# Altium schematic symbol library Transistor_Power_Module.SchLib: 35 symbols
Pins are listed as number, name and electrical type; pins without a type are passive.

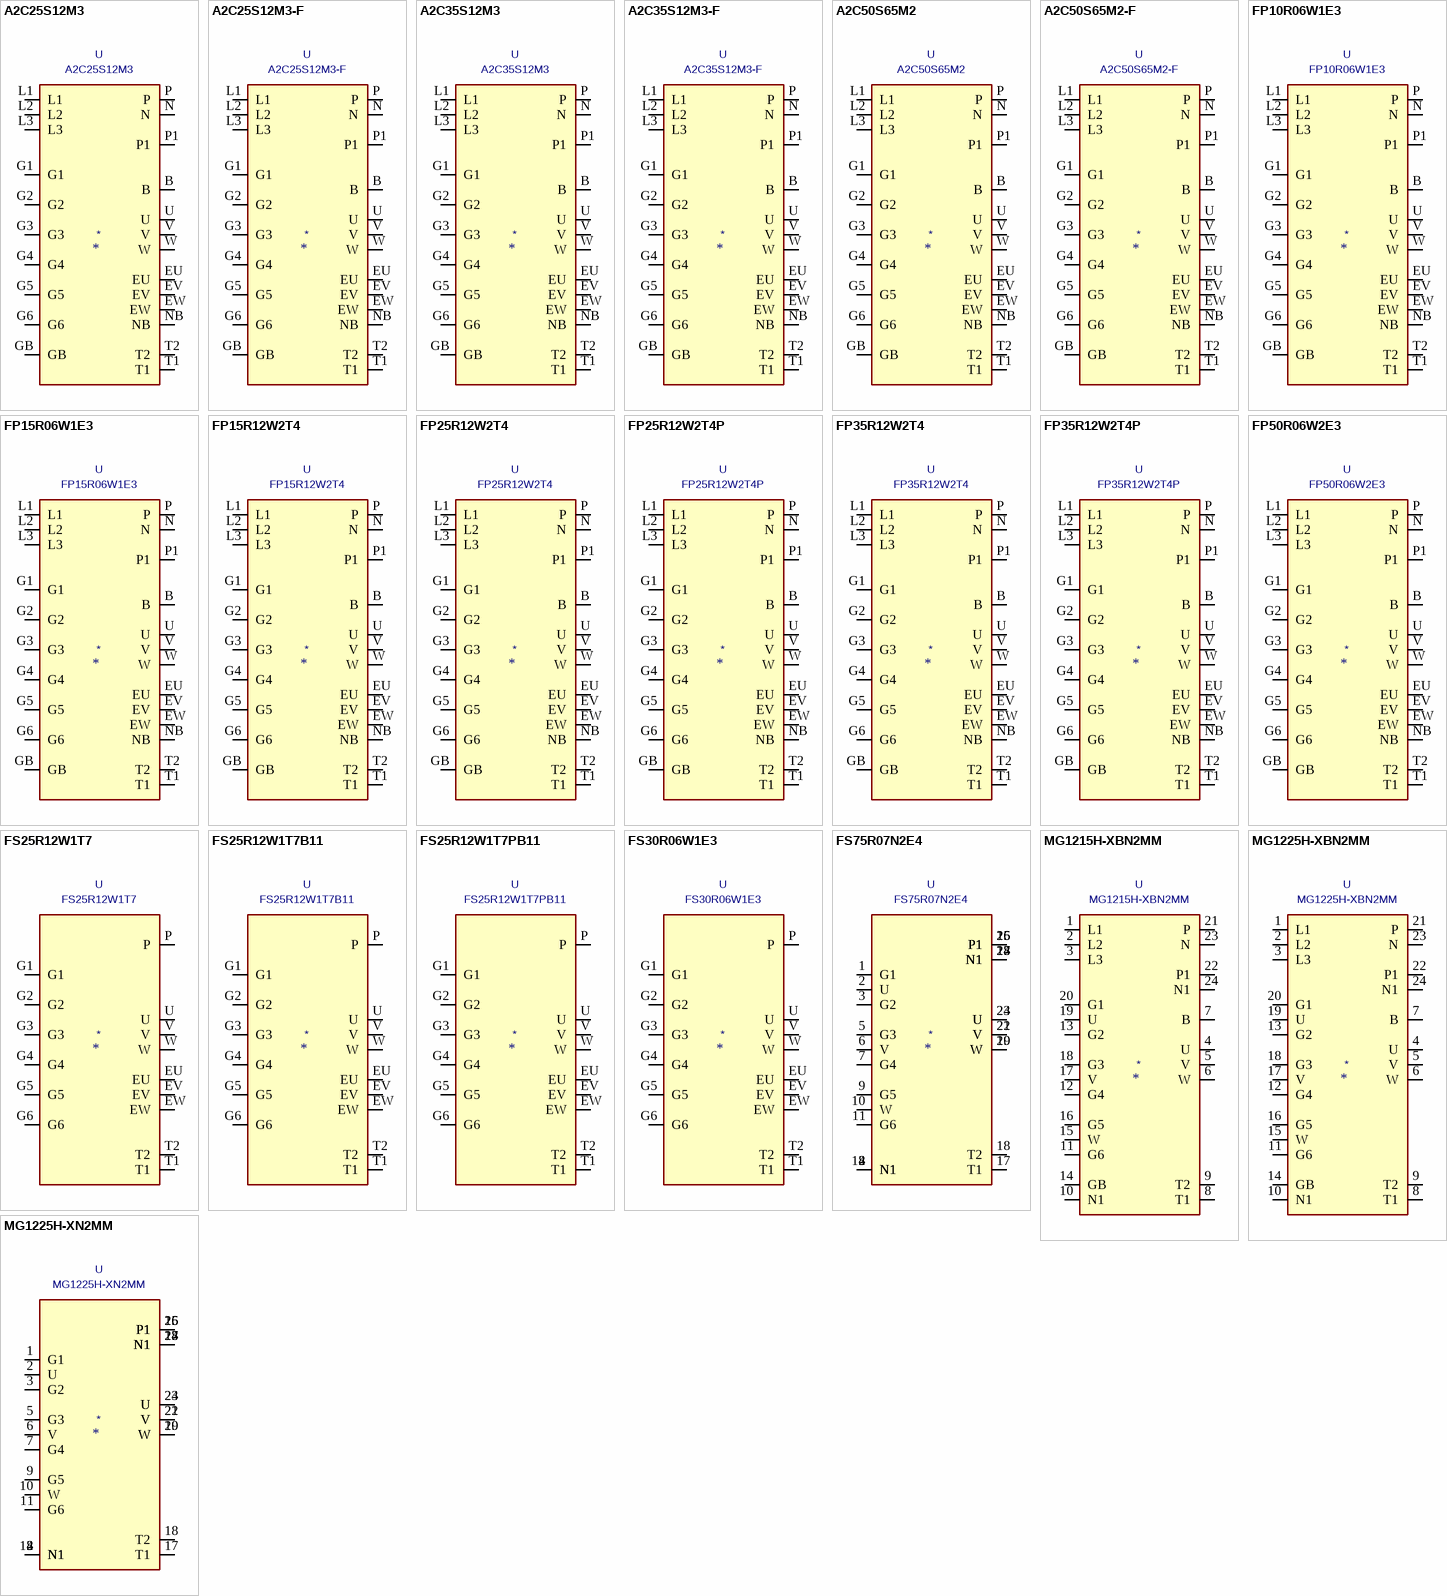
[diagram p0: symbols A2C25S12M3 to MG1225H-XN2MM]

## A2C25S12M3
designator *  value A2C25S12M3  Reference: U
25A, 1200V, 20kHz, 197W x 6 , 3-phase, Freewheeling Diode, Brake Chopper, Diode Rectifier, 5k NTC, ACEPACK-2-CIB; ki_keywords: IGBT Power Module Trench Field Stop Technology M series; ki_fp_filters: ST*ACEPACK*2*CIB*; Footprint: Transistor_Power_Module:ST_ACEPACK-2-CIB; Datasheet: https://www.st.com/resource/en/datasheet/a2c25s12m3.pdf; Description_: 25A, 1200V, 20kHz, 197W x 6 , 3-phase, Freewheeling Diode, Brake Chopper, Diode Rectifier, 5k NTC, ACEPACK-2-CIB
pins: B, EU, EV, EW, G1, G2, G3, G4, G5, G6, GB, L1, L2, L3, N, NB, P, P1, T1, T2, U, V, W

## A2C25S12M3-F
designator *  value A2C25S12M3-F  Reference: U
25A, 1200V, 20kHz, 197W x 6 , 3-phase, Freewheeling Diode, Brake Chopper, Diode Rectifier, 5k NTC, PressFIT, ACEPACK-2-CIB; ki_keywords: IGBT Power Module Trench Field Stop Technology M series; ki_fp_filters: ST*ACEPACK*2*CIB*PressFIT*; Footprint: Transistor_Power_Module:ST_ACEPACK-2-CIB_PressFIT; Datasheet: https://www.st.com/resource/en/datasheet/a2c25s12m3-f.pdf; Description_: 25A, 1200V, 20kHz, 197W x 6 , 3-phase, Freewheeling Diode, Brake Chopper, Diode Rectifier, 5k NTC, PressFIT, ACEPACK-2-CIB
pins: B, EU, EV, EW, G1, G2, G3, G4, G5, G6, GB, L1, L2, L3, N, NB, P, P1, T1, T2, U, V, W

## A2C35S12M3
designator *  value A2C35S12M3  Reference: U
35A, 1200V, 20kHz, 250W x 6 , 3-phase, Freewheeling Diode, Brake Chopper, Diode Rectifier, 5k NTC, ACEPACK-2-CIB; ki_keywords: IGBT Power Module Trench Field Stop Technology M series; ki_fp_filters: ST*ACEPACK*2*CIB*; Footprint: Transistor_Power_Module:ST_ACEPACK-2-CIB; Datasheet: https://www.st.com/resource/en/datasheet/a2c35s12m3.pdf; Description_: 35A, 1200V, 20kHz, 250W x 6 , 3-phase, Freewheeling Diode, Brake Chopper, Diode Rectifier, 5k NTC, ACEPACK-2-CIB
pins: B, EU, EV, EW, G1, G2, G3, G4, G5, G6, GB, L1, L2, L3, N, NB, P, P1, T1, T2, U, V, W

## A2C35S12M3-F
designator *  value A2C35S12M3-F  Reference: U
35A, 1200V, 20kHz, 250W x 6 , 3-phase, Freewheeling Diode, Brake Chopper, Diode Rectifier, 5k NTC, PresFIT, ACEPACK-2-CIB; ki_keywords: IGBT Power Module Trench Field Stop Technology M series; ki_fp_filters: ST*ACEPACK*2*CIB*PressFIT*; Footprint: Transistor_Power_Module:ST_ACEPACK-2-CIB_PressFIT; Datasheet: https://www.st.com/resource/en/datasheet/a2c35s12m3-f.pdf; Description_: 35A, 1200V, 20kHz, 250W x 6 , 3-phase, Freewheeling Diode, Brake Chopper, Diode Rectifier, 5k NTC, PresFIT, ACEPACK-2-CIB
pins: B, EU, EV, EW, G1, G2, G3, G4, G5, G6, GB, L1, L2, L3, N, NB, P, P1, T1, T2, U, V, W

## A2C50S65M2
designator *  value A2C50S65M2  Reference: U
50A, 650V, 20kHz, 208W x 6 , 3-phase, Freewheeling Diode, Brake Chopper, Diode Rectifier, 5k NTC, ACEPACK-2-CIB; ki_keywords: IGBT Power Module Trench Field Stop Technology M series; ki_fp_filters: ST*ACEPACK*2*CIB*; Footprint: Transistor_Power_Module:ST_ACEPACK-2-CIB; Datasheet: https://www.st.com/resource/en/datasheet/a2c50s65m2.pdf; Description_: 50A, 650V, 20kHz, 208W x 6 , 3-phase, Freewheeling Diode, Brake Chopper, Diode Rectifier, 5k NTC, ACEPACK-2-CIB
pins: B, EU, EV, EW, G1, G2, G3, G4, G5, G6, GB, L1, L2, L3, N, NB, P, P1, T1, T2, U, V, W

## A2C50S65M2-F
designator *  value A2C50S65M2-F  Reference: U
50A, 650V, 20kHz, 208W x 6 , 3-phase, Freewheeling Diode, Brake Chopper, Diode Rectifier, 5k NTC, PresFIT, ACEPACK-2-CIB; ki_keywords: IGBT Power Module Trench Field Stop Technology M series; ki_fp_filters: ST*ACEPACK*2*CIB*PressFIT*; Footprint: Transistor_Power_Module:ST_ACEPACK-2-CIB_PressFIT; Datasheet: https://www.st.com/resource/en/datasheet/a2c50s65m2-f.pdf; Description_: 50A, 650V, 20kHz, 208W x 6 , 3-phase, Freewheeling Diode, Brake Chopper, Diode Rectifier, 5k NTC, PresFIT, ACEPACK-2-CIB
pins: B, EU, EV, EW, G1, G2, G3, G4, G5, G6, GB, L1, L2, L3, N, NB, P, P1, T1, T2, U, V, W

## FP10R06W1E3
designator *  value FP10R06W1E3  Reference: U
10A, 600V, 68W, 3-phase, Freewheeling Diode, Brake Chopper, Diode Rectifier, 5k NTC, EasyPIM-1B; ki_keywords: IGBT Power Module Trench Field Stop Technology M series; ki_fp_filters: Infineon*EasyPIM*1B*; Footprint: Transistor_Power_Module:Infineon_EasyPIM-1B; Datasheet: https://www.infineon.com/dgdl/Infineon-FP10R06W1E3-DS-v02_01-en_de.pdf?fileId=db3a304412b407950112b43312285a63; Description_: 10A, 600V, 68W, 3-phase, Freewheeling Diode, Brake Chopper, Diode Rectifier, 5k NTC, EasyPIM-1B
pins: B, EU, EV, EW, G1, G2, G3, G4, G5, G6, GB, L1, L2, L3, N, NB, P, P1, T1, T2, U, V, W

## FP15R06W1E3
designator *  value FP15R06W1E3  Reference: U
15A, 600V, 81W, 3-phase, Freewheeling Diode, Brake Chopper, Diode Rectifier, 5k NTC, EasyPIM-1B; ki_keywords: IGBT Power Module Trench Field Stop Technology; ki_fp_filters: Infineon*EasyPIM*1B*; Footprint: Transistor_Power_Module:Infineon_EasyPIM-1B; Datasheet: https://www.infineon.com/dgdl/Infineon-FP15R06W1E3-DS-v02_01-en_de.pdf?fileId=db3a304412b407950112b43321b15a77; Description_: 15A, 600V, 81W, 3-phase, Freewheeling Diode, Brake Chopper, Diode Rectifier, 5k NTC, EasyPIM-1B
pins: B, EU, EV, EW, G1, G2, G3, G4, G5, G6, GB, L1, L2, L3, N, NB, P, P1, T1, T2, U, V, W

## FP15R12W2T4
designator *  value FP15R12W2T4  Reference: U
15A, 1200V, 145W, 3-phase, Freewheeling Diode, Brake Chopper, Diode Rectifier, 5k NTC, EasyPIM-2B; ki_keywords: IGBT Power Module Trench Field Stop Technology; ki_fp_filters: Infineon*EasyPIM*2B*; Footprint: Transistor_Power_Module:Infineon_EasyPIM-2B; Datasheet: https://www.infineon.com/dgdl/Infineon-FP15R12W2T4-DS-v03_00-en_de.pdf?fileId=db3a30433ba77ced013bae67c3eb3a5e; Description_: 15A, 1200V, 145W, 3-phase, Freewheeling Diode, Brake Chopper, Diode Rectifier, 5k NTC, EasyPIM-2B
pins: B, EU, EV, EW, G1, G2, G3, G4, G5, G6, GB, L1, L2, L3, N, NB, P, P1, T1, T2, U, V, W

## FP25R12W2T4
designator *  value FP25R12W2T4  Reference: U
25A, 1200V, 175W, 3-phase, Freewheeling Diode, Brake Chopper, Diode Rectifier, 5k NTC, EasyPIM-2B; ki_keywords: IGBT Power Module Trench Field Stop Technology; ki_fp_filters: Infineon*EasyPIM*2B*; Footprint: Transistor_Power_Module:Infineon_EasyPIM-2B; Datasheet: https://www.infineon.com/dgdl/Infineon-FP25R12W2T4-DS-v02_02-EN.pdf?fileId=db3a3043163797a60116389cdaeb0183; Description_: 25A, 1200V, 175W, 3-phase, Freewheeling Diode, Brake Chopper, Diode Rectifier, 5k NTC, EasyPIM-2B
pins: B, EU, EV, EW, G1, G2, G3, G4, G5, G6, GB, L1, L2, L3, N, NB, P, P1, T1, T2, U, V, W

## FP25R12W2T4P
designator *  value FP25R12W2T4P  Reference: U
25A, 1200V, 175W, 3-phase, Freewheeling Diode, Brake Chopper, Diode Rectifier, 5k NTC, TIM, EasyPIM-2B; ki_keywords: IGBT Power Module Trench Field Stop Technology; ki_fp_filters: Infineon*EasyPIM*2B*; Footprint: Transistor_Power_Module:Infineon_EasyPIM-2B; Datasheet: https://www.infineon.com/dgdl/Infineon-FP25R12W2T4P-DS-v03_00-EN.pdf?fileId=5546d4625bd71aa0015bfbc806e571fc; Description_: 25A, 1200V, 175W, 3-phase, Freewheeling Diode, Brake Chopper, Diode Rectifier, 5k NTC, TIM, EasyPIM-2B
pins: B, EU, EV, EW, G1, G2, G3, G4, G5, G6, GB, L1, L2, L3, N, NB, P, P1, T1, T2, U, V, W

## FP35R12W2T4
designator *  value FP35R12W2T4  Reference: U
35A, 1200V, 215W, 3-phase, Freewheeling Diode, Brake Chopper, Diode Rectifier, 5k NTC, EasyPIM-2B; ki_keywords: IGBT Power Module Trench Field Stop Technology; ki_fp_filters: Infineon*EasyPIM*2B*; Footprint: Transistor_Power_Module:Infineon_EasyPIM-2B; Datasheet: https://www.infineon.com/dgdl/Infineon-FP35R12W2T4-DS-v02_02-EN.pdf?fileId=db3a3043163797a6011638a0541501a0; Description_: 35A, 1200V, 215W, 3-phase, Freewheeling Diode, Brake Chopper, Diode Rectifier, 5k NTC, EasyPIM-2B
pins: B, EU, EV, EW, G1, G2, G3, G4, G5, G6, GB, L1, L2, L3, N, NB, P, P1, T1, T2, U, V, W

## FP35R12W2T4P
designator *  value FP35R12W2T4P  Reference: U
35A, 1200V, 215W, 3-phase, Freewheeling Diode, Brake Chopper, Diode Rectifier, 5k NTC, TIM, EasyPIM-2B; ki_keywords: IGBT Power Module Trench Field Stop Technology; ki_fp_filters: Infineon*EasyPIM*2B*; Footprint: Transistor_Power_Module:Infineon_EasyPIM-2B; Datasheet: https://www.infineon.com/dgdl/Infineon-FP35R12W2T4P-DS-v03_00-EN.pdf?fileId=5546d4625bd71aa0015bfbbf0d7a71f8; Description_: 35A, 1200V, 215W, 3-phase, Freewheeling Diode, Brake Chopper, Diode Rectifier, 5k NTC, TIM, EasyPIM-2B
pins: B, EU, EV, EW, G1, G2, G3, G4, G5, G6, GB, L1, L2, L3, N, NB, P, P1, T1, T2, U, V, W

## FP50R06W2E3
designator *  value FP50R06W2E3  Reference: U
50A, 600V, 175W, 3-phase, Freewheeling Diode, Brake Chopper, Diode Rectifier, 5k NTC, EasyPIM-2B; ki_keywords: IGBT Power Module Trench Field Stop Technology; ki_fp_filters: Infineon*EasyPIM*2B*; Footprint: Transistor_Power_Module:Infineon_EasyPIM-2B; Datasheet: https://www.infineon.com/dgdl/Infineon-FP50R06W2E3-DS-v02_02-EN.pdf?fileId=db3a30431b3e89eb011b455c99987d24; Description_: 50A, 600V, 175W, 3-phase, Freewheeling Diode, Brake Chopper, Diode Rectifier, 5k NTC, EasyPIM-2B
pins: B, EU, EV, EW, G1, G2, G3, G4, G5, G6, GB, L1, L2, L3, N, NB, P, P1, T1, T2, U, V, W

## FS25R12W1T7
designator *  value FS25R12W1T7  Reference: U
25A, 1200V, 3-phase, Freewheeling Diode, 5k NTC, EasyPACK-1B; ki_keywords: igbt power module trench field stop technology basic insulation class 1 IEC 61140; ki_fp_filters: Infineon*EasyPACK?1B*; Footprint: Transistor_Power_Module:Infineon_EasyPACK-1B; Datasheet: https://www.infineon.com/dgdl/Infineon-FS25R12W1T7-DataSheet-v02_00-EN.pdf?fileId=5546d46270c4f93e0170f188efca7334; Description_: 25A, 1200V, 3-phase, Freewheeling Diode, 5k NTC, EasyPACK-1B
pins: EU, EV, EW, G1, G2, G3, G4, G5, G6, P, T1, T2, U, V, W

## FS25R12W1T7B11
designator *  value FS25R12W1T7B11  Reference: U
25A, 1200V, 3-phase, Freewheeling Diode, 5k NTC, PressFIT, EasyPACK-1B; ki_keywords: igbt power module trench field stop technology basic insulation class 1 IEC 61140; ki_fp_filters: Infineon*EasyPACK?1B*PressFIT*; Footprint: Transistor_Power_Module:Infineon_EasyPACK-1B_PressFIT; Datasheet: https://www.infineon.com/dgdl/Infineon-FS25R12W1T7_B11-DataSheet-v02_00-EN.pdf?fileId=5546d46270c4f93e0170f186359472e9; Description_: 25A, 1200V, 3-phase, Freewheeling Diode, 5k NTC, PressFIT, EasyPACK-1B
pins: EU, EV, EW, G1, G2, G3, G4, G5, G6, P, T1, T2, U, V, W

## FS25R12W1T7PB11
designator *  value FS25R12W1T7PB11  Reference: U
25A, 1200V, 3-phase, Freewheeling Diode, 5k NTC, TIM, PressFIT, EasyPACK-1B; ki_keywords: igbt power module trench field stop technology basic insulation class 1 IEC 61140; ki_fp_filters: Infineon*EasyPACK?1B*PressFIT*; Footprint: Transistor_Power_Module:Infineon_EasyPACK-1B_PressFIT; Datasheet: https://www.infineon.com/dgdl/Infineon-FS25R12W1T7P_B11-DataSheet-v02_00-EN.pdf?fileId=5546d46273a5366f0173e165e5d65778; Description_: 25A, 1200V, 3-phase, Freewheeling Diode, 5k NTC, TIM, PressFIT, EasyPACK-1B
pins: EU, EV, EW, G1, G2, G3, G4, G5, G6, P, T1, T2, U, V, W

## FS30R06W1E3
designator *  value FS30R06W1E3  Reference: U
30A, 600V, 150W, 3-phase, Freewheeling Diode, 5k NTC, EasyPACK-1B; ki_keywords: igbt power module trench field stop technology basic insulation class 1 IEC 61140; ki_fp_filters: Infineon*EasyPACK?1B*; Footprint: Transistor_Power_Module:Infineon_EasyPACK-1B; Datasheet: https://www.infineon.com/dgdl/Infineon-FS30R06W1E3-DataSheet-v02_01-EN.pdf?fileId=db3a304313b8b5a60113cecd4c3102c1; Description_: 30A, 600V, 150W, 3-phase, Freewheeling Diode, 5k NTC, EasyPACK-1B
pins: EU, EV, EW, G1, G2, G3, G4, G5, G6, P, T1, T2, U, V, W

## FS75R07N2E4
designator *  value FS75R07N2E4  Reference: U
75A, 650V, 250W , 3-phase, Freewheeling Diode, 5k NTC, AG-Econo2; ki_keywords: IGBT Power Module Trench Field Stop Technology; ki_fp_filters: *Infineon*AG*ECONO2*; Footprint: Transistor_Power_Module:Infineon_AG-ECONO2; Datasheet: https://www.infineon.com/dgdl/Infineon-FS75R07N2E4-DS-v02_00-en_de.pdf?fileId=db3a30432f5008fe012f52f916333979; Description_: 75A, 650V, 250W , 3-phase, Freewheeling Diode, 5k NTC, AG-Econo2
pins: 1 G1, 2 U, 3 G2, 4 N1, 5 G3, 6 V, 7 G4, 8 N1, 9 G5, 10 W, 11 G6, 12 N1, 13 N1, 14 N1, 15 P1, 16 P1, 17 T1, 18 T2, 19 W, 20 W, 21 V, 22 V, 23 U, 24 U, 25 P1, 26 P1, 27 N1, 28 N1

## MG1215H-XBN2MM
designator *  value MG1215H-XBN2MM  Reference: U
15A, 1200V, 105W x 6 , 3-phase, Freewheeling Diode, Brake Chopper, Diode Rectifier, 5k NTC, Package-H (XBN2MM); ki_keywords: IGBT Power Module Trench Field Stop Technology; ki_fp_filters: Littelfuse*Package*H*XBN2MM*; Footprint: Transistor_Power_Module:Littelfuse_Package_H_XBN2MM; Datasheet: https://www.littelfuse.com/~/media/electronics/datasheets/power_semiconductors/littelfuse_power_semiconductor_igbt_module_mg1215h_xbn2mm_datasheet.pdf.pdf; Description_: 15A, 1200V, 105W x 6 , 3-phase, Freewheeling Diode, Brake Chopper, Diode Rectifier, 5k NTC, Package-H (XBN2MM)
pins: 1 L1, 2 L2, 3 L3, 4 U, 5 V, 6 W, 7 B, 8 T1, 9 T2, 10 N1, 11 G6, 12 G4, 13 G2, 14 GB, 15 W, 16 G5, 17 V, 18 G3, 19 U, 20 G1, 21 P, 22 P1, 23 N, 24 N1

## MG1225H-XBN2MM
designator *  value MG1225H-XBN2MM  Reference: U
25A, 1200V, 147W x 6 , 3-phase, Freewheeling Diode, Brake Chopper, Diode Rectifier, 5k NTC, Package-H (XBN2MM); ki_keywords: IGBT Power Module Trench Field Stop Technology; ki_fp_filters: Littelfuse*Package*H*XBN2MM*; Footprint: Transistor_Power_Module:Littelfuse_Package_H_XBN2MM; Datasheet: https://www.littelfuse.com/~/media/electronics/datasheets/power_semiconductors/littelfuse_power_semiconductor_igbt_module_mg1225h_xbn2mm_datasheet.pdf.pdf; Description_: 25A, 1200V, 147W x 6 , 3-phase, Freewheeling Diode, Brake Chopper, Diode Rectifier, 5k NTC, Package-H (XBN2MM)
pins: 1 L1, 2 L2, 3 L3, 4 U, 5 V, 6 W, 7 B, 8 T1, 9 T2, 10 N1, 11 G6, 12 G4, 13 G2, 14 GB, 15 W, 16 G5, 17 V, 18 G3, 19 U, 20 G1, 21 P, 22 P1, 23 N, 24 N1

## MG1225H-XN2MM
designator *  value MG1225H-XN2MM  Reference: U
25A, 1200V, 147W x 6 , 3-phase, Freewheeling Diode, 5k NTC, Package-H (XN2MM); ki_keywords: IGBT Power Module Trench Field Stop Technology; ki_fp_filters: Littelfuse*Package*H*XN2MM*; Footprint: Transistor_Power_Module:Littelfuse_Package_H_XN2MM; Datasheet: https://www.littelfuse.com/~/media/electronics/datasheets/power_semiconductors/littelfuse_power_semiconductor_igbt_module_mg1225h_xn2mm_datasheet.pdf.pdf; Description_: 25A, 1200V, 147W x 6 , 3-phase, Freewheeling Diode, 5k NTC, Package-H (XN2MM)
pins: 1 G1, 2 U, 3 G2, 4 N1, 5 G3, 6 V, 7 G4, 8 N1, 9 G5, 10 W, 11 G6, 12 N1, 13 N1, 14 N1, 15 P1, 16 P1, 17 T1, 18 T2, 19 W, 20 W, 21 V, 22 V, 23 U, 24 U, 25 P1, 26 P1, 27 N1, 28 N1

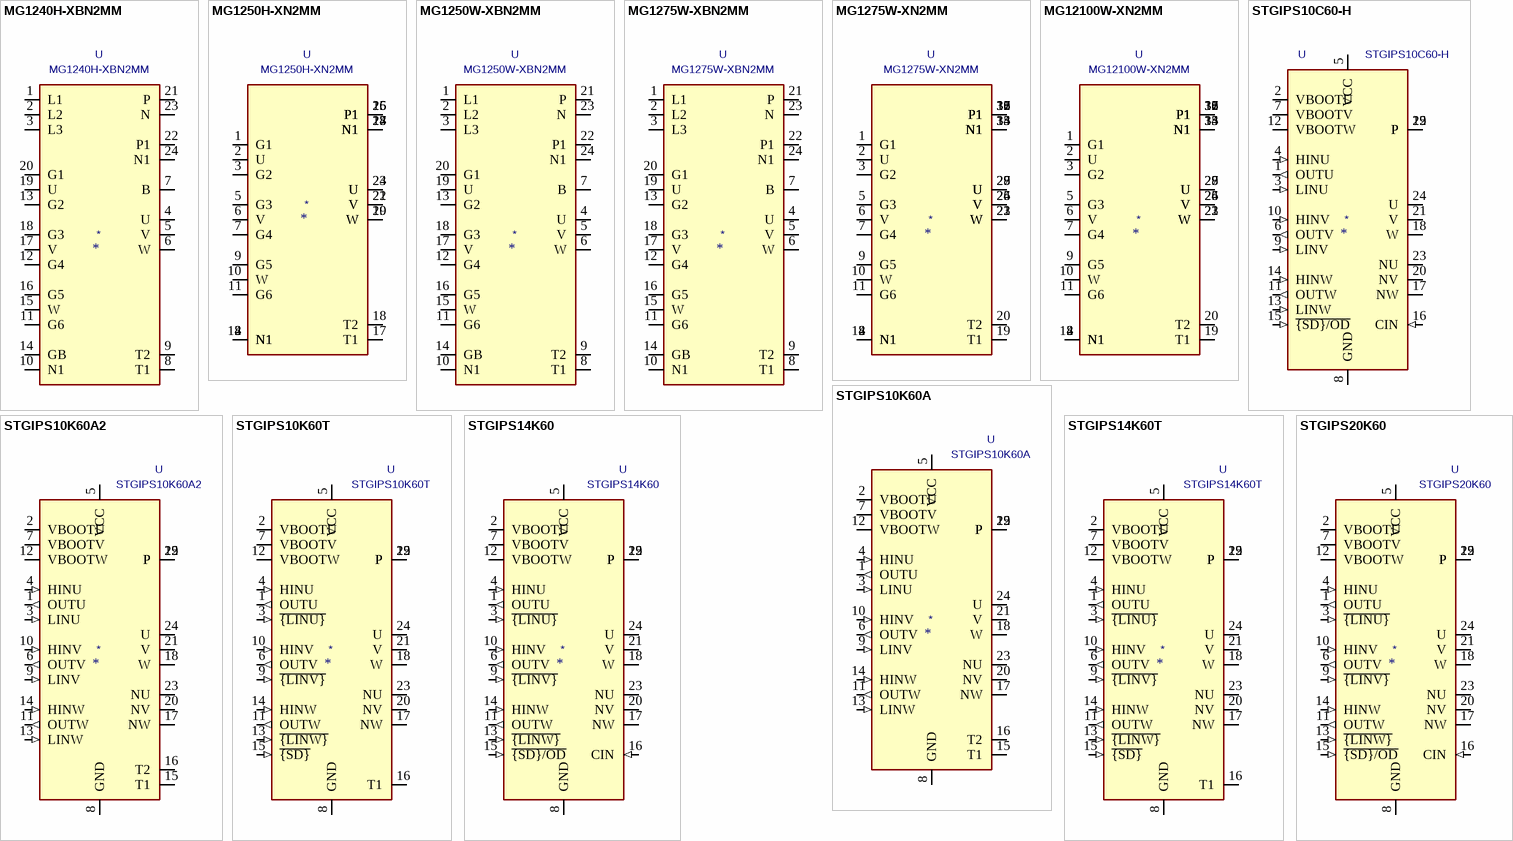
[diagram p1: symbols MG1240H-XBN2MM to STGIPS20K60]

## MG1240H-XBN2MM
designator *  value MG1240H-XBN2MM  Reference: U
40A, 1200V, 195W x 6 , 3-phase, Freewheeling Diode, Brake Chopper, Diode Rectifier, 5k NTC, Package-H (XBN2MM); ki_keywords: IGBT Power Module Trench Field Stop Technology; ki_fp_filters: Littelfuse*Package*H*XBN2MM*; Footprint: Transistor_Power_Module:Littelfuse_Package_H_XBN2MM; Datasheet: https://www.littelfuse.com/~/media/electronics/datasheets/power_semiconductors/littelfuse_power_semiconductor_igbt_module_mg1240h_xbn2mm_datasheet.pdf.pdf; Description_: 40A, 1200V, 195W x 6 , 3-phase, Freewheeling Diode, Brake Chopper, Diode Rectifier, 5k NTC, Package-H (XBN2MM)
pins: 1 L1, 2 L2, 3 L3, 4 U, 5 V, 6 W, 7 B, 8 T1, 9 T2, 10 N1, 11 G6, 12 G4, 13 G2, 14 GB, 15 W, 16 G5, 17 V, 18 G3, 19 U, 20 G1, 21 P, 22 P1, 23 N, 24 N1

## MG1250H-XN2MM
designator *  value MG1250H-XN2MM  Reference: U
50A, 1200V, 260W x 6 , 3-phase, Freewheeling Diode, 5k NTC, Package-H (XN2MM); ki_keywords: IGBT Power Module Trench Field Stop Technology; ki_fp_filters: Littelfuse*Package*H*XN2MM*; Footprint: Transistor_Power_Module:Littelfuse_Package_H_XN2MM; Datasheet: https://www.littelfuse.com/~/media/electronics/datasheets/power_semiconductors/littelfuse_power_semiconductor_igbt_module_mg1250h_xn2mm_datasheet.pdf.pdf; Description_: 50A, 1200V, 260W x 6 , 3-phase, Freewheeling Diode, 5k NTC, Package-H (XN2MM)
pins: 1 G1, 2 U, 3 G2, 4 N1, 5 G3, 6 V, 7 G4, 8 N1, 9 G5, 10 W, 11 G6, 12 N1, 13 N1, 14 N1, 15 P1, 16 P1, 17 T1, 18 T2, 19 W, 20 W, 21 V, 22 V, 23 U, 24 U, 25 P1, 26 P1, 27 N1, 28 N1

## MG1250W-XBN2MM
designator *  value MG1250W-XBN2MM  Reference: U
50A, 1200V, 260W x 6 , 3-phase, Freewheeling Diode, Brake Chopper, Diode Rectifier, 5k NTC, Package-W (XBN2MM); ki_keywords: IGBT Power Module Trench Field Stop Technology; ki_fp_filters: Littelfuse*Package*W*XBN2MM*; Footprint: Transistor_Power_Module:Littelfuse_Package_W_XBN2MM; Datasheet: https://www.littelfuse.com/~/media/electronics/datasheets/power_semiconductors/littelfuse_power_semiconductor_igbt_module_mg1250w_xbn2mm_datasheet.pdf.pdf; Description_: 50A, 1200V, 260W x 6 , 3-phase, Freewheeling Diode, Brake Chopper, Diode Rectifier, 5k NTC, Package-W (XBN2MM)
pins: 1 L1, 2 L2, 3 L3, 4 U, 5 V, 6 W, 7 B, 8 T1, 9 T2, 10 N1, 11 G6, 12 G4, 13 G2, 14 GB, 15 W, 16 G5, 17 V, 18 G3, 19 U, 20 G1, 21 P, 22 P1, 23 N, 24 N1

## MG1275W-XBN2MM
designator *  value MG1275W-XBN2MM  Reference: U
75A, 1200V, 358W x 6 , 3-phase, Freewheeling Diode, Brake Chopper, Diode Rectifier, 5k NTC, Package-W (XBN2MM); ki_keywords: IGBT Power Module Trench Field Stop Technology; ki_fp_filters: Littelfuse*Package*W*XBN2MM*; Footprint: Transistor_Power_Module:Littelfuse_Package_W_XBN2MM; Datasheet: https://www.littelfuse.com/~/media/electronics/datasheets/power_semiconductors/littelfuse_power_semiconductor_igbt_module_mg1275w_xbn2mm_datasheet.pdf.pdf; Description_: 75A, 1200V, 358W x 6 , 3-phase, Freewheeling Diode, Brake Chopper, Diode Rectifier, 5k NTC, Package-W (XBN2MM)
pins: 1 L1, 2 L2, 3 L3, 4 U, 5 V, 6 W, 7 B, 8 T1, 9 T2, 10 N1, 11 G6, 12 G4, 13 G2, 14 GB, 15 W, 16 G5, 17 V, 18 G3, 19 U, 20 G1, 21 P, 22 P1, 23 N, 24 N1

## MG1275W-XN2MM
designator *  value MG1275W-XN2MM  Reference: U
75A, 1200V, 368W x 6 , 3-phase, Freewheeling Diode, 5k NTC, Package-W (XN2MM); ki_keywords: IGBT Power Module Trench Field Stop Technology; ki_fp_filters: Littelfuse*Package*W*XN2MM*; Footprint: Transistor_Power_Module:Littelfuse_Package_W_XN2MM; Datasheet: https://www.littelfuse.com/~/media/electronics/datasheets/power_semiconductors/littelfuse_power_semiconductor_igbt_module_mg1275w_xn2mm_datasheet.pdf.pdf; Description_: 75A, 1200V, 368W x 6 , 3-phase, Freewheeling Diode, 5k NTC, Package-W (XN2MM)
pins: 1 G1, 2 U, 3 G2, 4 N1, 5 G3, 6 V, 7 G4, 8 N1, 9 G5, 10 W, 11 G6, 12 N1, 13 N1, 14 N1, 15 N1, 16 P1, 17 P1, 18 P1, 19 T1, 20 T2, 21 W, 22 W, 23 W, 24 V, 25 V, 26 V, 27 U, 28 U, 29 U, 30 P1, 31 P1, 32 P1, 33 N1, 34 N1, 35 N1

## MG12100W-XN2MM
designator *  value MG12100W-XN2MM  Reference: U
100A, 1200V, 450W x 6 , 3-phase, Freewheeling Diode, 5k NTC, Package-W (XN2MM); ki_keywords: IGBT Power Module Trench Field Stop Technology; ki_fp_filters: Littelfuse*Package*W*XN2MM*; Footprint: Transistor_Power_Module:Littelfuse_Package_W_XN2MM; Datasheet: https://www.littelfuse.com/~/media/electronics/datasheets/power_semiconductors/littelfuse_power_semiconductor_igbt_module_mg12100w_xn2mm_datasheet.pdf.pdf; Description_: 100A, 1200V, 450W x 6 , 3-phase, Freewheeling Diode, 5k NTC, Package-W (XN2MM)
pins: 1 G1, 2 U, 3 G2, 4 N1, 5 G3, 6 V, 7 G4, 8 N1, 9 G5, 10 W, 11 G6, 12 N1, 13 N1, 14 N1, 15 N1, 16 P1, 17 P1, 18 P1, 19 T1, 20 T2, 21 W, 22 W, 23 W, 24 V, 25 V, 26 V, 27 U, 28 U, 29 U, 30 P1, 31 P1, 32 P1, 33 N1, 34 N1, 35 N1

## STGIPS10C60-H
designator *  value STGIPS10C60-H  Reference: U
10 A, 600 V, 20KHz, 33Wx6, 3-phase, Control Logic, Positive Input , Freewheeling Diode, Undervoltage Lockout, Interlocking, Shut down (SD), Comparator, SDIP-25L; ki_keywords: SLLIMM IPM inverter short-circuit rugged IGBT; ki_fp_filters: ST*SDIP*; Footprint: Transistor_Power_Module:ST_SDIP-25L; Datasheet: https://www.st.com/resource/en/datasheet/stgips10c60-h.pdf; Description_: 10 A, 600 V, 20KHz, 33Wx6, 3-phase, Control Logic, Positive Input , Freewheeling Diode, Undervoltage Lockout, Interlocking, Shut down (SD), Comparator, SDIP-25L
pins: 1 OUTU (out), 2 VBOOTU, 3 LINU (in), 4 HINU (in), 5 VCC (power), 6 OUTV (out), 7 VBOOTV, 8 GND (power), 9 LINV (in), 10 HINV (in), 11 OUTW (out), 12 VBOOTW, 13 LINW (in), 14 HINW (in), 15 ~{{SD}/OD} (in), 16 CIN (in), 17 NW, 18 W, 19 P, 20 NV, 21 V, 22 P, 23 NU, 24 U, 25 P

## STGIPS10K60A
designator *  value STGIPS10K60A  Reference: U
10 A, 600 V, 20KHz, 33Wx6, 3-phase, Control Logic, Positive Input , Freewheeling Diodes, Undervoltage Lockout, Interlocking, 5k NTC, SDIP-25L; ki_keywords: SLLIMM IPM inverter short-circuit rugged IGBT; ki_fp_filters: ST*SDIP*; Footprint: Transistor_Power_Module:ST_SDIP-25L; Datasheet: https://www.st.com/resource/en/datasheet/stgips10k60a.pdf; Description_: 10 A, 600 V, 20KHz, 33Wx6, 3-phase, Control Logic, Positive Input , Freewheeling Diodes, Undervoltage Lockout, Interlocking, 5k NTC, SDIP-25L
pins: 1 OUTU (out), 2 VBOOTU, 3 LINU (in), 4 HINU (in), 5 VCC (power), 6 OUTV (out), 7 VBOOTV, 8 GND (power), 9 LINV (in), 10 HINV (in), 11 OUTW (out), 12 VBOOTW, 13 LINW (in), 14 HINW (in), 15 T1, 16 T2, 17 NW, 18 W, 19 P, 20 NV, 21 V, 22 P, 23 NU, 24 U, 25 P

## STGIPS10K60A2
designator *  value STGIPS10K60A2  Reference: U
10 A, 600 V, 20KHz, 33Wx6, 3-phase, Control Logic, Positive Input , Freewheeling Diodes, Undervoltage Lockout, Interlocking, 4k7 NTC, SDIP-25L; ki_keywords: SLLIMM IPM inverter short-circuit rugged IGBT; ki_fp_filters: ST*SDIP*; Footprint: Transistor_Power_Module:ST_SDIP-25L; Datasheet: https://www.st.com/resource/en/datasheet/stgips10k60a2.pdf; Description_: 10 A, 600 V, 20KHz, 33Wx6, 3-phase, Control Logic, Positive Input , Freewheeling Diodes, Undervoltage Lockout, Interlocking, 4k7 NTC, SDIP-25L
pins: 1 OUTU (out), 2 VBOOTU, 3 LINU (in), 4 HINU (in), 5 VCC (power), 6 OUTV (out), 7 VBOOTV, 8 GND (power), 9 LINV (in), 10 HINV (in), 11 OUTW (out), 12 VBOOTW, 13 LINW (in), 14 HINW (in), 15 T1, 16 T2, 17 NW, 18 W, 19 P, 20 NV, 21 V, 22 P, 23 NU, 24 U, 25 P

## STGIPS10K60T
designator *  value STGIPS10K60T  Reference: U
10 A, 600 V, 20KHz, 33Wx6, 3-phase, Control Logic, Negative Input , Freewheeling Diode, Undervoltage Lockout, Interlocking, Shut down (SD), 4k7 NTC, SDIP-25L; ki_keywords: SLLIMM IPM inverter short-circuit rugged IGBT; ki_fp_filters: ST*SDIP*; Footprint: Transistor_Power_Module:ST_SDIP-25L; Datasheet: https://www.st.com/resource/en/datasheet/stgips10k60t.pdf; Description_: 10 A, 600 V, 20KHz, 33Wx6, 3-phase, Control Logic, Negative Input , Freewheeling Diode, Undervoltage Lockout, Interlocking, Shut down (SD), 4k7 NTC, SDIP-25L
pins: 1 OUTU (out), 2 VBOOTU, 3 ~{{LINU}} (in), 4 HINU (in), 5 VCC (power), 6 OUTV (out), 7 VBOOTV, 8 GND (power), 9 ~{{LINV}} (in), 10 HINV (in), 11 OUTW (out), 12 VBOOTW, 13 ~{{LINW}} (in), 14 HINW (in), 15 ~{{SD}} (in), 16 T1, 17 NW, 18 W, 19 P, 20 NV, 21 V, 22 P, 23 NU, 24 U, 25 P

## STGIPS14K60
designator *  value STGIPS14K60  Reference: U
14 A, 600 V, 20KHz, 42Wx6, 3-phase, Control Logic, Negative Input , Freewheeling Diode, Undervoltage Lockout, Interlocking, Shut down (SD), Comparator, SDIP-25L; ki_keywords: SLLIMM IPM inverter short-circuit rugged IGBT; ki_fp_filters: ST*SDIP*; Footprint: Transistor_Power_Module:ST_SDIP-25L; Datasheet: https://www.st.com/resource/en/datasheet/stgips14k60.pdf; Description_: 14 A, 600 V, 20KHz, 42Wx6, 3-phase, Control Logic, Negative Input , Freewheeling Diode, Undervoltage Lockout, Interlocking, Shut down (SD), Comparator, SDIP-25L
pins: 1 OUTU (out), 2 VBOOTU, 3 ~{{LINU}} (in), 4 HINU (in), 5 VCC (power), 6 OUTV (out), 7 VBOOTV, 8 GND (power), 9 ~{{LINV}} (in), 10 HINV (in), 11 OUTW (out), 12 VBOOTW, 13 ~{{LINW}} (in), 14 HINW (in), 15 ~{{SD}/OD} (in), 16 CIN (in), 17 NW, 18 W, 19 P, 20 NV, 21 V, 22 P, 23 NU, 24 U, 25 P

## STGIPS14K60T
designator *  value STGIPS14K60T  Reference: U
14 A, 600 V, 20KHz, 42Wx6,  3-phase, Control Logic, Negative Input , Freewheeling Diode, Undervoltage Lockout, Interlocking, Shut down (SD), 4k7 NTC, SDIP-25L; ki_keywords: SLLIMM IPM inverter short-circuit rugged IGBT; ki_fp_filters: ST*SDIP*; Footprint: Transistor_Power_Module:ST_SDIP-25L; Datasheet: https://www.st.com/resource/en/datasheet/stgips14k60t.pdf; Description_: 14 A, 600 V, 20KHz, 42Wx6,  3-phase, Control Logic, Negative Input , Freewheeling Diode, Undervoltage Lockout, Interlocking, Shut down (SD), 4k7 NTC, SDIP-25L
pins: 1 OUTU (out), 2 VBOOTU, 3 ~{{LINU}} (in), 4 HINU (in), 5 VCC (power), 6 OUTV (out), 7 VBOOTV, 8 GND (power), 9 ~{{LINV}} (in), 10 HINV (in), 11 OUTW (out), 12 VBOOTW, 13 ~{{LINW}} (in), 14 HINW (in), 15 ~{{SD}} (in), 16 T1, 17 NW, 18 W, 19 P, 20 NV, 21 V, 22 P, 23 NU, 24 U, 25 P

## STGIPS20K60
designator *  value STGIPS20K60  Reference: U
18 A, 600 V, 20KHz, 52Wx6,  3-phase, Control Logic, Negative Input , Freewheeling Diode, Undervoltage Lockout, Interlocking, Shut down (SD), Comparator, SDIP-25L; ki_keywords: SLLIMM IPM inverter short-circuit rugged IGBT; ki_fp_filters: ST*SDIP*; Footprint: Transistor_Power_Module:ST_SDIP-25L; Datasheet: https://www.st.com/resource/en/datasheet/stgips20k60.pdf; Description_: 18 A, 600 V, 20KHz, 52Wx6,  3-phase, Control Logic, Negative Input , Freewheeling Diode, Undervoltage Lockout, Interlocking, Shut down (SD), Comparator, SDIP-25L
pins: 1 OUTU (out), 2 VBOOTU, 3 ~{{LINU}} (in), 4 HINU (in), 5 VCC (power), 6 OUTV (out), 7 VBOOTV, 8 GND (power), 9 ~{{LINV}} (in), 10 HINV (in), 11 OUTW (out), 12 VBOOTW, 13 ~{{LINW}} (in), 14 HINW (in), 15 ~{{SD}/OD} (in), 16 CIN (in), 17 NW, 18 W, 19 P, 20 NV, 21 V, 22 P, 23 NU, 24 U, 25 P